# EAGLE library part LTM8023 (library linear-technology)
2A, 36V DC/DC µModule Complete Step-Down Switch Mode Power Supply Source: http://www.linear.com/pc/downloadDocument.do?name=8023ff.pdf
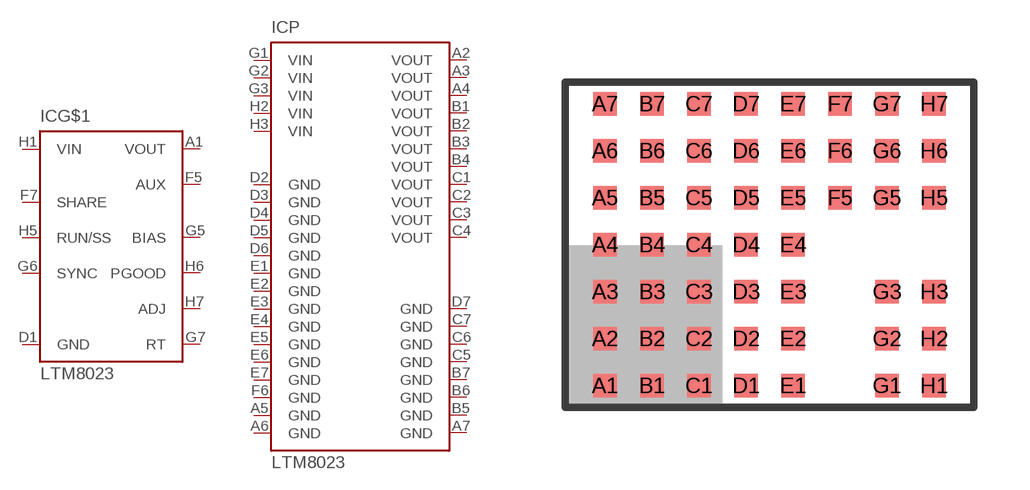
[diagram p19: symbol with the pads of LGA50; footprint LGA50]

Designator prefix IC; gates G$1=LTM8023 P=LTM8023-P

## LTM8023 (MPN: LTM8023IV#PBF; OC_FARNELL: 1799827; OC_NEWARK: 02P7640)  [LGA50]
A1  G$1:VOUT  pwr
A2  P:VOUT  pwr
A3  P:VOUT  pwr
A4  P:VOUT  pwr
A5  P:GND  pwr
A6  P:GND  pwr
A7  P:GND  pwr
B1  P:VOUT  pwr
B2  P:VOUT  pwr
B3  P:VOUT  pwr
B4  P:VOUT  pwr
B5  P:GND  pwr
B6  P:GND  pwr
B7  P:GND  pwr
C1  P:VOUT  pwr
C2  P:VOUT  pwr
C3  P:VOUT  pwr
C4  P:VOUT  pwr
C5  P:GND  pwr
C6  P:GND  pwr
C7  P:GND  pwr
D1  G$1:GND  pwr
D2  P:GND  pwr
D3  P:GND  pwr
D4  P:GND  pwr
D5  P:GND  pwr
D6  P:GND  pwr
D7  P:GND  pwr
E1  P:GND  pwr
E2  P:GND  pwr
E3  P:GND  pwr
E4  P:GND  pwr
E5  P:GND  pwr
E6  P:GND  pwr
E7  P:GND  pwr
F5  G$1:AUX  out
F6  P:GND  pwr
F7  G$1:SHARE  in
G1  P:VIN  pwr
G2  P:VIN  pwr
G3  P:VIN  pwr
G5  G$1:BIAS  pas
G6  G$1:SYNC  in
G7  G$1:RT  pas
H1  G$1:VIN  pwr
H2  P:VIN  pwr
H3  P:VIN  pwr
H5  G$1:RUN/SS  in
H6  G$1:PGOOD  oc
H7  G$1:ADJ  pas

## Footprint LGA50 (pad centres in mm)
LGA Package 50-Lead (11.25mm × 9.00mm × 2.82mm) (Reference LTC DWG # 05-08-1804 Rev B) Source: http://www.linear.com/pc/downloadDocument.do?name=8023ff.pdf
smd 0.635 x 0.635: A1 -4.445,-3.81; A2 -4.445,-2.54; A3 -4.445,-1.27; A4 -4.445,0; A5 -4.445,1.27; A6 -4.445,2.54; A7 -4.445,3.81; B1 -3.175,-3.81; B2 -3.175,-2.54; B3 -3.175,-1.27; B4 -3.175,0; B5 -3.175,1.27; B6 -3.175,2.54; B7 -3.175,3.81; C1 -1.905,-3.81; C2 -1.905,-2.54; C3 -1.905,-1.27; C4 -1.905,0; C5 -1.905,1.27; C6 -1.905,2.54; C7 -1.905,3.81; D1 -0.635,-3.81; D2 -0.635,-2.54; D3 -0.635,-1.27; D4 -0.635,0; D5 -0.635,1.27; D6 -0.635,2.54; D7 -0.635,3.81; E1 0.635,-3.81; E2 0.635,-2.54; E3 0.635,-1.27; E4 0.635,0; E5 0.635,1.27; E6 0.635,2.54; E7 0.635,3.81; F5 1.905,1.27; F6 1.905,2.54; F7 1.905,3.81; G1 3.175,-3.81; G2 3.175,-2.54; G3 3.175,-1.27; G5 3.175,1.27; G6 3.175,2.54; G7 3.175,3.81; H1 4.445,-3.81; H2 4.445,-2.54; H3 4.445,-1.27; H5 4.445,1.27; H6 4.445,2.54; H7 4.445,3.81